# EAGLE library part PZ254R-12-10P_LCSC (library lcsc_parts)
Description: Pin Header 10 Position 2.54mm Pitch Dual Row Through Hole, Right Angle -40℃~+105℃ Manufacturer: XFCN MPN: PZ254R-12-10P LCSC Part: C492433 Category: Headers, Male Pins Datasheet: https://datasheet.lcsc.com/datasheet/pdf/1f53812cd2826948b4cc9f7974ede882.pdf?productCode=C492433
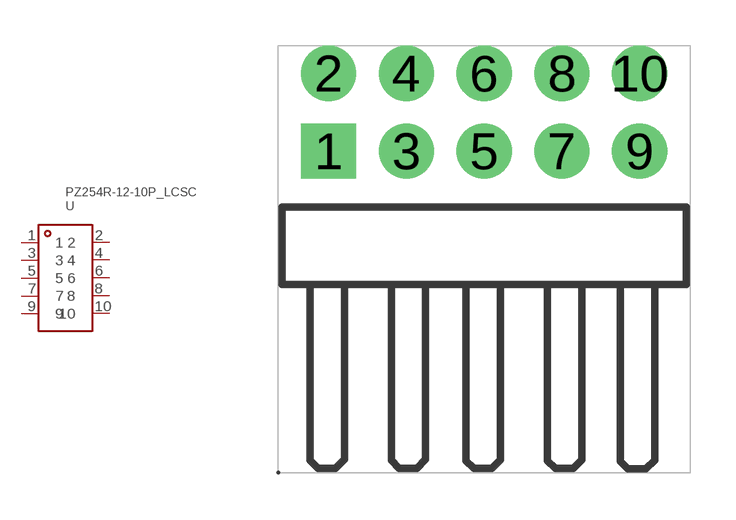
[diagram p27: symbol with the pads of HDR-TH_10P-P2.54-H-M-R2-C5-S2.54; footprint HDR-TH_10P-P2.54-H-M-R2-C5-S2.54]

Designator prefix U

## PZ254R-12-10P_LCSC (CATEGORY: Headers, Male Pins; CIRCLUAR_PINS_SQUARE_PINS: Pin Header; COLOR: Black; CONTACT_MATERIAL: Brass; DATASHEET: https://datasheet.lcsc.com/datasheet/pdf/1f53812cd2826948b4cc9f7974ede882.pdf?productCode=C492433; DESCRIPTION: Pin Header 10 Position 2.54mm Pitch Dual Row Through Hole, Right Angle -40℃~+105℃; INSULATION_HEIGHT: 2.5mm; LCSC_PART: C492433; LCSC_STOCK: 18990; LENGTH_OF_MATING_PIN: 6mm; MANUFACTURER: XFCN; MOUNTING_TYPE: Right Angle; MPN: PZ254R-12-10P; NUMBER_OF_PINS: 10P; NUMBER_OF_ROWS: 2; OPERATING_TEMPERATURE: -40℃~+105℃; PARTNO: PZ254R-12-10P; PIN_STRUCTURE: 2x5P; PITCH: 2.54mm; PRICING_1000: $0.0412/unit @ 1000; PRICING_50: $0.0675/unit @ 50; ROW_SPACING: 2.54mm)  [HDR-TH_10P-P2.54-H-M-R2-C5-S2.54]
1  1
2  2
3  3
4  4
5  5
6  6
7  7
8  8
9  9
10  10

## Footprint HDR-TH_10P-P2.54-H-M-R2-C5-S2.54 (pad centres in mm)
drill 1.1 pad 1.8 square: 1 -5.08,-1.27
drill 1.1 pad 1.8 round: 2 -5.08,1.27; 3 -2.54,-1.27; 4 -2.54,1.27; 5 0,-1.27; 6 0,1.27; 7 2.54,-1.27; 8 2.54,1.27; 9 5.08,-1.27; 10 5.08,1.27